# Altium schematic symbol library 665 1xx 131 822.SchLib: 7 symbols
Pins are listed as number, name and electrical type; pins without a type are passive.

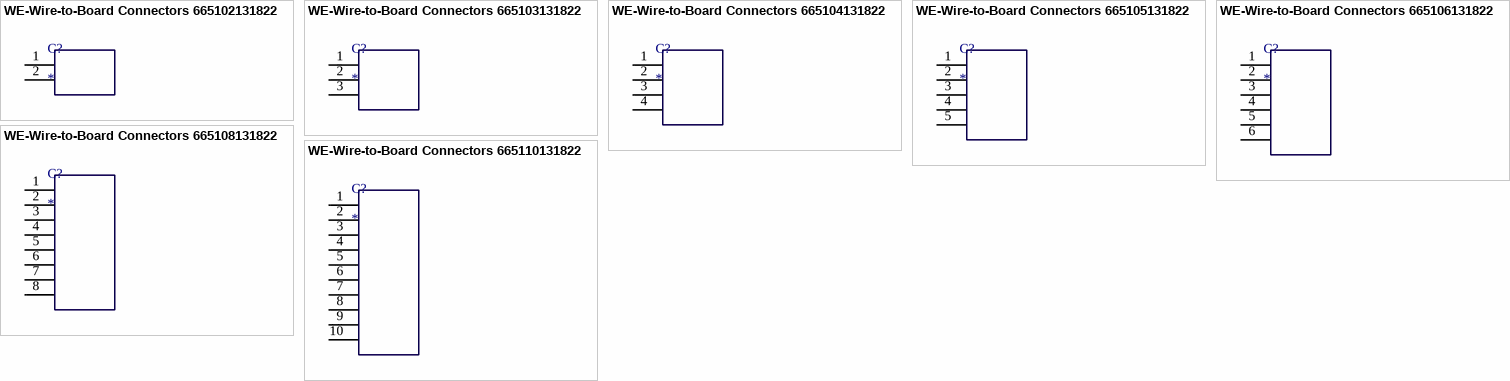
[diagram p0: symbols WE-Wire-to-Board Connectors 665102131822 to WE-Wire-to-Board Connectors 665110131822]

## WE-Wire-to-Board Connectors 665102131822
designator C?
ConWTB Wire-to-Board Connectors 1.00 mm; Manufacturer: WЁ№rth Elektronik eiSos GmbH; partNo: 665102131822; ComponentLink1 Description: Manufacturer; ComponentLink2 Description: Datasheet; ComponentLink1URL: http://www.we-online.de; ComponentLink2URL: http://katalog.we-online.de/em/datasheet/6651xx131822.pdf; Created by: Karrer Zheng; Created Date: 10/9/2014
footprint 665102131822
pins: 1  , 2  

## WE-Wire-to-Board Connectors 665103131822
designator C?
ConWTB Wire-to-Board Connectors 1.00 mm; Manufacturer: WЁ№rth Elektronik eiSos GmbH; partNo: 665103131822; ComponentLink1 Description: Manufacturer; ComponentLink2 Description: Datasheet; ComponentLink1URL: http://www.we-online.de; ComponentLink2URL: http://katalog.we-online.de/em/datasheet/6651xx131822.pdf; Created by: Karrer Zheng; Created Date: 10/9/2014
footprint 665103131822
pins: 1  , 2  , 3  

## WE-Wire-to-Board Connectors 665104131822
designator C?
ConWTB Wire-to-Board Connectors 1.00 mm; Manufacturer: WЁ№rth Elektronik eiSos GmbH; partNo: 665104131822; ComponentLink1 Description: Manufacturer; ComponentLink2 Description: Datasheet; ComponentLink1URL: http://www.we-online.de; ComponentLink2URL: http://katalog.we-online.de/em/datasheet/6651xx131822.pdf; Created by: Karrer Zheng; Created Date: 10/9/2014
footprint 665104131822
pins: 1  , 2  , 3  , 4  

## WE-Wire-to-Board Connectors 665105131822
designator C?
ConWTB Wire-to-Board Connectors 1.00 mm; Manufacturer: WЁ№rth Elektronik eiSos GmbH; partNo: 665105131822; ComponentLink1 Description: Manufacturer; ComponentLink2 Description: Datasheet; ComponentLink1URL: http://www.we-online.de; ComponentLink2URL: http://katalog.we-online.de/em/datasheet/6651xx131822.pdf; Created by: Karrer Zheng; Created Date: 10/9/2014
footprint 665105131822
pins: 1  , 2  , 3  , 4  , 5  

## WE-Wire-to-Board Connectors 665106131822
designator C?
ConWTB Wire-to-Board Connectors 1.00 mm; Manufacturer: WЁ№rth Elektronik eiSos GmbH; partNo: 665106131822; ComponentLink1 Description: Manufacturer; ComponentLink2 Description: Datasheet; ComponentLink1URL: http://www.we-online.de; ComponentLink2URL: http://katalog.we-online.de/em/datasheet/6651xx131822.pdf; Created by: Karrer Zheng; Created Date: 10/9/2014
footprint 665106131822
pins: 1  , 2  , 3  , 4  , 5  , 6  

## WE-Wire-to-Board Connectors 665108131822
designator C?
ConWTB Wire-to-Board Connectors 1.00 mm; Manufacturer: WЁ№rth Elektronik eiSos GmbH; partNo: 665108131822; ComponentLink1 Description: Manufacturer; ComponentLink2 Description: Datasheet; ComponentLink1URL: http://www.we-online.de; ComponentLink2URL: http://katalog.we-online.de/em/datasheet/6651xx131822.pdf; Created by: Karrer Zheng; Created Date: 10/9/2014
footprint 665108131822
pins: 1  , 2  , 3  , 4  , 5  , 6  , 7  , 8  

## WE-Wire-to-Board Connectors 665110131822
designator C?
ConWTB Wire-to-Board Connectors 1.00 mm; Manufacturer: WЁ№rth Elektronik eiSos GmbH; partNo: 665110131822; ComponentLink1 Description: Manufacturer; ComponentLink2 Description: Datasheet; ComponentLink1URL: http://www.we-online.de; ComponentLink2URL: http://katalog.we-online.de/em/datasheet/6651xx131822.pdf; Created by: Karrer Zheng; Created Date: 10/9/2014
footprint 665110131822
pins: 1  , 2  , 3  , 4  , 5  , 6  , 7  , 8  , 9  , 10  